# Altium schematic symbol library HX711_Schimatic_Lib.SchLib: 1 symbol
Pins are listed as number, name and electrical type; pins without a type are passive.

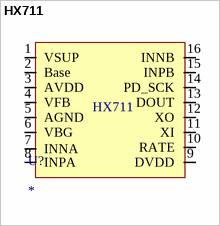
[diagram p0: symbol HX711]

## HX711
designator U?
HX711 Load Cell Amplifier
pins: 1 VSUP (power), 2 Base, 3 AVDD, 4 VFB, 5 AGND, 6 VBG, 7 INNA, 8 INPA, 9 DVDD, 10 RATE, 11 XI, 12 XO, 13 DOUT, 14 PD_SCK, 15 INPB, 16 INNB